# Altium schematic symbol library LM60.Schlib: 1 symbol
Pins are listed as number, name and electrical type; pins without a type are passive.

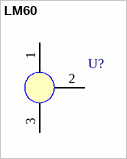
[diagram p0: symbol LM60]

## LM60
designator U?  (value not drawn)
Temperature sensor
footprint SOT-23
pins: 1 VCC, 2 Vout, 3 GND